# Altium footprint library RF Development Board.PcbLib: 2 footprints
Each footprint in its own frame and in the unit in brackets; x right, y up, seen from the top. Pads: shape width x height; smd on the part's side, far side on the other; paste and mask are expansions set on the pad; w line width, h text height; cw(c..) or ccw(c..) is an arc to the next point about the centre after c.
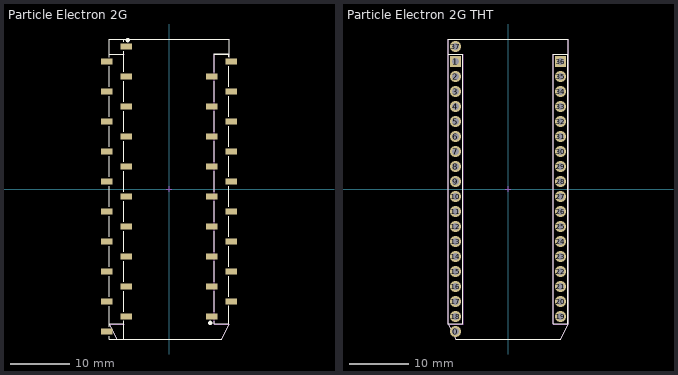
[diagram p0: the footprints below, top view; thin cyan lines are the x and y axes]

## Particle Electron 2G [mm]
pads (38):
  rect 1.91x1 smd: 0(-10.535,-24.13) 1(-10.535,21.59) 2(-7.245,19.05) 3(-10.535,16.51) 4(-7.245,13.97) 5(-10.535,11.43) 6(-7.245,8.89) 7(-10.535,6.35) 8(-7.245,3.81) 9(-10.535,1.27) 10(-7.245,-1.27) 11(-10.535,-3.81) 12(-7.245,-6.35) 13(-10.535,-8.89) 14(-7.245,-11.43) 15(-10.535,-13.97) 16(-7.245,-16.51) 17(-10.535,-19.05) 18(-7.245,-21.59) 19(7.245,-21.59) 20(10.535,-19.05) 21(7.245,-16.51) 22(10.535,-13.97) 23(7.245,-11.43) 24(10.535,-8.89) 25(7.245,-6.35) 26(10.535,-3.81) 27(7.245,-1.27) 28(10.535,1.27) 29(7.245,3.81) 30(10.535,6.35) 31(7.245,8.89) 32(10.535,11.43) 33(7.245,13.97) 34(10.535,16.51) 35(7.245,19.05) 36(10.535,21.59) 37(-7.245,24.13)
Top Overlay:
  circle w0.5: c-6.99,25.22 r0.122
  circle w0.5: c6.99,-22.68 r0.122
  lines w0.16: -10.16,-22.86 -8.89,-25.4 8.89,-25.4 10.16,-22.86 ; -10.16,25.4 10.16,25.4 ; -10.1,-22.825 -7.675,-22.825 ; -10.1,22.825 -7.675,22.825 ; 7.675,-22.825 10.1,-22.825 ; 7.675,22.825 10.1,22.825
  lines w0.2: -10.14,-24.92 -10.14,-25.4 -7.64,-25.4 -7.64,-22.32 ; -10.14,-23.32 -10.14,-19.82 ; -10.14,-18.24 -10.14,-14.74 ; -10.14,-13.16 -10.14,-9.66 ; -10.14,-8.08 -10.14,-4.58 ; -10.14,-3 -10.14,0.5 ; -10.14,2.08 -10.14,5.58 ; -10.14,7.16 -10.14,10.66 ; -10.14,12.24 -10.14,15.74 ; -10.14,17.32 -10.14,20.82 ; -10.14,22.32 -10.14,25.4 -7.64,25.4 -7.64,24.92 ; -7.64,-20.82 -7.64,-17.32 ; -7.64,-15.74 -7.64,-12.24 ; -7.64,-10.66 -7.64,-7.16 ; -7.64,-5.58 -7.64,-2.08 ; -7.64,-0.5 -7.64,3 ; -7.64,4.58 -7.64,8.08 ; -7.64,9.66 -7.64,13.16 ; -7.64,14.74 -7.64,18.24 ; -7.64,19.82 -7.64,23.32 ; 7.64,-22.38 7.64,-22.86 10.14,-22.86 10.14,-19.78 ; 7.64,-20.78 7.64,-17.28 ; 7.64,-15.7 7.64,-12.2 ; 7.64,-10.62 7.64,-7.12 ; 7.64,-5.54 7.64,-2.04 ; 7.64,-0.46 7.64,3.04 ; 7.64,4.62 7.64,8.12 ; 7.64,9.7 7.64,13.2 ; 7.64,14.78 7.64,18.28 ; 7.64,19.78 7.64,22.86 10.14,22.86 10.14,22.38 ; 10.14,-18.28 10.14,-14.78 ; 10.14,-13.2 10.14,-9.7 ; 10.14,-8.12 10.14,-4.62 ; 10.14,-3.04 10.14,0.46 ; 10.14,2.04 10.14,5.54 ; 10.14,7.12 10.14,10.62 ; 10.14,12.2 10.14,15.7 ; 10.14,17.28 10.14,20.78 ; 10.18,22.32 10.18,25.4
Mechanical 11:
  lines w0.1: -10.16,22.86 -7.62,22.86 ; -10.16,25.4 10.16,25.4 ; -7.62,-22.86 -10.16,-22.86 -8.89,-25.4 8.89,-25.4 10.16,-22.86 7.62,-22.86 7.62,22.86 10.16,22.86
Mechanical 15:
  lines w0.1: -0.5,0 0.5,0 ; 0,-0.5 0,0.5
3D body "61001811921.stp": height 7.46, standoff -0.04, extent 6.865,-23.11 10.915,23.11
3D body "61002011921.stp": height 7.46, standoff -0.04, extent -10.915,-25.65 -6.865,25.65

## Particle Electron 2G THT [mil]
pads (38):
  round 75 hole 45: 0(-350,-950) 2(-350,750) 3(-350,650) 4(-350,550) 5(-350,450) 6(-350,350) 7(-350,250) 8(-350,150) 9(-350,50) 10(-350,-50) 11(-350,-150) 12(-350,-250) 13(-350,-350) 14(-350,-450) 15(-350,-550) 16(-350,-650) 17(-350,-750) 18(-350,-850) 19(350,-850) 20(350,-750) 21(350,-650) 22(350,-550) 23(350,-450) 24(350,-350) 25(350,-250) 26(350,-150) 27(350,-50) 28(350,50) 29(350,150) 30(350,250) 31(350,350) 32(350,450) 33(350,550) 34(350,650) 35(350,750) 37(-350,950)
  rect 75x75 hole 45: 1(-350,850) 36(350,850)
Top Overlay:
  lines w6.3: -400,-900 -400,1000 400,1000 400,-900 350,-1000 -350,-1000 -400,-900 ; -397.64,-898.62 -302.17,-898.62 -302.17,898.62 -397.64,898.62 -397.64,-898.62 ; 302.17,-898.62 397.64,-898.62 397.64,898.62 302.17,898.62 302.17,-898.62
Mechanical 11:
  lines w3.94: -400,900 -300,900 -300,-900 -400,-900 ; 400,900 300,900 300,-900 400,-900 ; -400,-900 -400,1000 400,1000 400,-900 ; -400,-900 -350,-1000 350,-1000 400,-900
Mechanical 15:
  lines w3.94: -19.68,0 19.68,0 ; 0,-19.68 0,19.68